# Altium footprint library 18276541.PcbLib: 1 footprints
Each footprint in its own frame and in the unit in brackets; x right, y up, seen from the top. Pads: shape width x height; smd on the part's side, far side on the other; paste and mask are expansions set on the pad; w line width, h text height; cw(c..) or ccw(c..) is an arc to the next point about the centre after c.
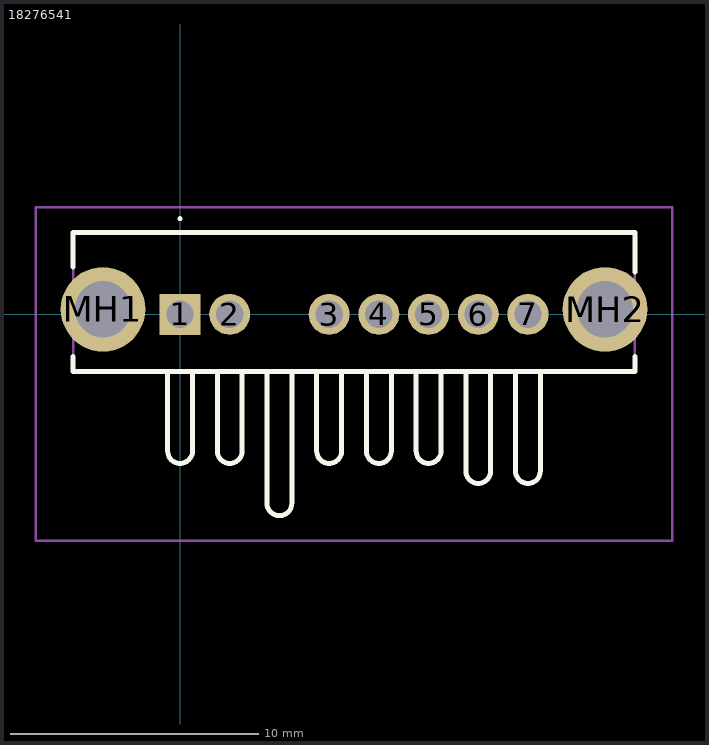
[diagram p0: the footprint, top view; thin cyan lines are the x and y axes]

## 18276541 [mm]
pads (9):
  rect 1.65x1.65 hole 1.1: 1(0,0)
  round 1.65 hole 1.1: 2(2,0) 3(6,0) 4(8,0) 5(10,0) 6(12,0) 7(14,0)
  round 3.405 hole 2.27: MH1(-3.1,0.2) MH2(17.1,0.2)
Top Overlay:
  lines w0.1: 0,3.8 cw(c0,3.85) 0,3.9 ; 0,3.8 0,3.8 ; 0,3.8 ccw(c0,3.85) 0,3.9 ; 0,3.9 0,3.9
  lines w0.2: -4.3,-1.7 -4.3,-2.3 18.3,-2.3 18.3,-1.7 ; -4.3,1.9 -4.3,3.3 18.3,3.3 18.3,1.7 ; -0.5,-2.3 -0.5,-5.5 ; 0.5,-2.3 0.5,-5.5 cw(c0,-5.5) -0.5,-5.5 ; 1.5,-2.3 1.5,-5.5 ; 2.5,-2.3 2.5,-5.5 cw(c2,-5.5) 1.5,-5.5 ; 3.5,-2.3 3.5,-7.6 ; 4.5,-2.3 4.5,-7.6 cw(c4,-7.6) 3.5,-7.6 ; 5.5,-2.3 5.5,-5.5 ; 6.5,-2.3 6.5,-5.5 cw(c6,-5.5) 5.5,-5.5 ; 7.5,-2.3 7.5,-5.5 ; 8.5,-2.3 8.5,-5.5 cw(c8,-5.5) 7.5,-5.5 ; 9.5,-2.3 9.5,-5.5 ; 10.5,-2.3 10.5,-5.5 cw(c10,-5.5) 9.5,-5.5 ; 11.5,-2.3 11.5,-6.3 ; 12.5,-2.3 12.5,-6.3 cw(c12,-6.3) 11.5,-6.3 ; 13.5,-2.3 13.5,-6.3 ; 14.5,-2.3 14.5,-6.3 cw(c14,-6.3) 13.5,-6.3 ; -0.5,-5.5 -0.5,-5.5 ; 1.5,-5.5 1.5,-5.5 ; 3.5,-7.6 3.5,-7.6 ; 5.5,-5.5 5.5,-5.5 ; 7.5,-5.5 7.5,-5.5 ; 9.5,-5.5 9.5,-5.5 ; 11.5,-6.3 11.5,-6.3 ; 13.5,-6.3 13.5,-6.3
Mechanical 15:
  lines w0.1: -0.5,-2.3 -0.5,-5.5 ; 0.5,-2.3 0.5,-5.5 cw(c0,-5.5) -0.5,-5.5 ; 1.5,-2.3 1.5,-5.5 ; 2.5,-2.3 2.5,-5.5 cw(c2,-5.5) 1.5,-5.5 ; 3.5,-2.3 3.5,-7.6 ; 4.5,-2.3 4.5,-7.6 cw(c4,-7.6) 3.5,-7.6 ; 5.5,-2.3 5.5,-5.5 ; 6.5,-2.3 6.5,-5.5 cw(c6,-5.5) 5.5,-5.5 ; 7.5,-2.3 7.5,-5.5 ; 8.5,-2.3 8.5,-5.5 cw(c8,-5.5) 7.5,-5.5 ; 9.5,-2.3 9.5,-5.5 ; 10.5,-2.3 10.5,-5.5 cw(c10,-5.5) 9.5,-5.5 ; 11.5,-2.3 11.5,-6.3 ; 12.5,-2.3 12.5,-6.3 cw(c12,-6.3) 11.5,-6.3 ; 13.5,-2.3 13.5,-6.3 ; 14.5,-2.3 14.5,-6.3 cw(c14,-6.3) 13.5,-6.3 ; -0.5,-5.5 -0.5,-5.5 ; 1.5,-5.5 1.5,-5.5 ; 3.5,-7.6 3.5,-7.6 ; 5.5,-5.5 5.5,-5.5 ; 7.5,-5.5 7.5,-5.5 ; 9.5,-5.5 9.5,-5.5 ; 11.5,-6.3 11.5,-6.3 ; 13.5,-6.3 13.5,-6.3 ; -4.3,-2.3 18.3,-2.3 18.3,3.3 -4.3,3.3 -4.3,-2.3
Mechanical 20:
  lines w0.1: -5.803,-9.1 19.803,-9.1 19.803,4.3 -5.803,4.3 -5.803,-9.1